# EAGLE library part OPA1632 (library Mine)
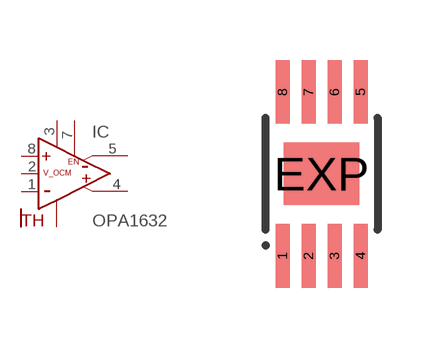
[diagram p10: symbol with the pads of MSOP8; footprint MSOP8]

Designator prefix IC

## OPA1632DGN  [MSOP8]
1  IN-  in
2  V_OCM  in
3  VCC  pwr
4  OUT+  out
5  OUT-  out
6  VEE  pwr
7  EN  in
8  IN+  in
EXP  TH  oc

## Footprint MSOP8 (pad centres in mm)
Micro Small Outline Package
smd 0.35 x 1.6: 1 -0.975,-2.05; 2 -0.325,-2.05; 3 0.325,-2.05; 4 0.975,-2.05; 5 0.975,2.05; 6 0.325,2.05; 7 -0.325,2.05; 8 -0.975,2.05
smd 1.89 x 1.57: EXP 0,0